# Altium schematic symbol library CON_1X2.SchLib: 1 symbol
Pins are listed as number, name and electrical type; pins without a type are passive.

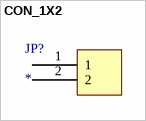
[diagram p0: symbol CON_1X2]

## CON_1X2
designator JP?
pins: 1, 2